# EAGLE library part MAX3490EESA+ (library MAX3490)
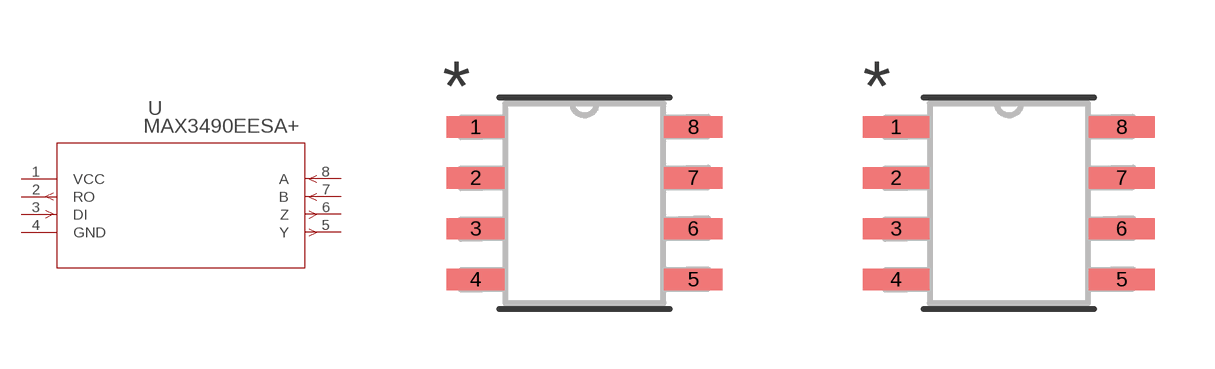
[diagram p0: symbol with the pads of 21-0041B_8_MXM; footprints 21-0041B_8_MXM, 21-0041B_8_MXM-M]

Designator prefix U

## MAX3490EESA+ (COPYRIGHT: Copyright (C) 2022 Ultra Librarian. All rights reserved.; MANUFACTURER_PART_NUMBER: MAX3490EESA+; MFR_NAME: Maxim Integrated Products)  [21-0041B_8_MXM]
1  VCC  pwr
2  RO  out
3  DI  in
4  GND  pwr
5  Y  out
6  Z  out
7  B  in
8  A  in

## MAX3490EESA+21-0041B_8_MXM-M (COPYRIGHT: Copyright (C) 2022 Ultra Librarian. All rights reserved.; MANUFACTURER_PART_NUMBER: MAX3490EESA+; MFR_NAME: Maxim Integrated Products)  [21-0041B_8_MXM-M]
Pads as for 21-0041B_8_MXM

## MAX3490EESA+21-0041B_8_MXM-L (COPYRIGHT: Copyright (C) 2022 Ultra Librarian. All rights reserved.; MANUFACTURER_PART_NUMBER: MAX3490EESA+; MFR_NAME: Maxim Integrated Products)  [21-0041B_8_MXM-L]
Pads as for 21-0041B_8_MXM

## Footprint 21-0041B_8_MXM (pad centres in mm)
smd 1.455 x 0.533: 1 -2.721,1.905; 2 -2.721,0.635; 3 -2.721,-0.635; 4 -2.721,-1.905; 5 2.721,-1.905; 6 2.721,-0.635; 7 2.721,0.635; 8 2.721,1.905

## Footprint 21-0041B_8_MXM-M (pad centres in mm)
smd 1.655 x 0.533: 1 -2.821,1.905; 2 -2.821,0.635; 3 -2.821,-0.635; 4 -2.821,-1.905; 5 2.821,-1.905; 6 2.821,-0.635; 7 2.821,0.635; 8 2.821,1.905

## Footprint 21-0041B_8_MXM-L (pad centres in mm)
smd 1.255 x 0.483: 1 -2.621,1.905; 2 -2.621,0.635; 3 -2.621,-0.635; 4 -2.621,-1.905; 5 2.621,-1.905; 6 2.621,-0.635; 7 2.621,0.635; 8 2.621,1.905